# Altium footprint library ISG-PLL-PCBA.PcbLib: 1 footprints
Each footprint in its own frame and in the unit in brackets; x right, y up, seen from the top. Pads: shape width x height; smd on the part's side, far side on the other; paste and mask are expansions set on the pad; w line width, h text height; cw(c..) or ccw(c..) is an arc to the next point about the centre after c.
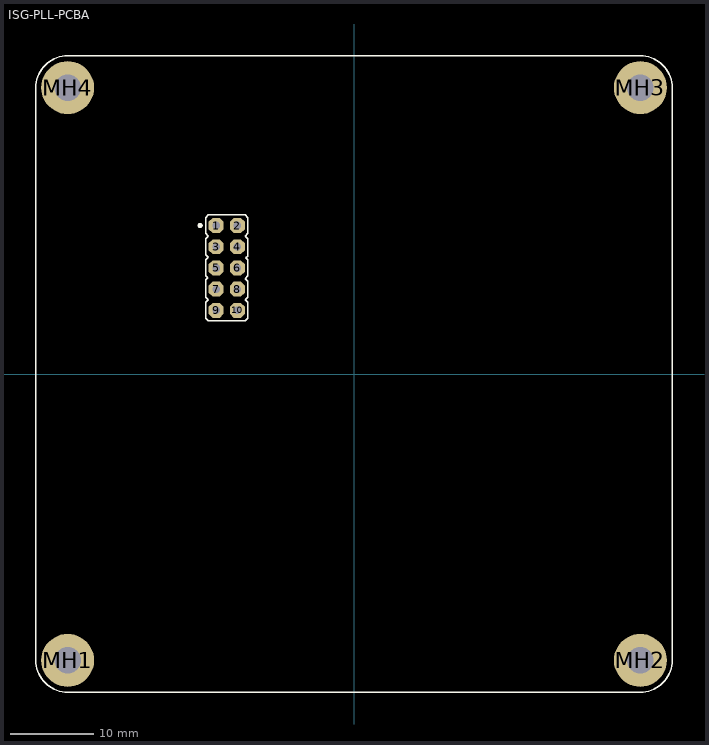
[diagram p0: the footprint, top view; thin cyan lines are the x and y axes]

## ISG-PLL-PCBA [mil]
pads (14):
  oct 70x70 hole 36: 1(-650,700) 2(-550,700) 3(-650,600) 4(-550,600) 5(-650,500) 6(-550,500) 7(-650,400) 8(-550,400) 9(-650,300) 10(-550,300)
  round 250 hole 125.98: MH1(-1350,-1350) MH2(1350,-1350) MH3(1350,1350) MH4(-1350,1350)
Top Overlay:
  circle w12: c-725,700 r6
  lines w6: -1500,-1350 ccw(c-1350,-1350) -1350,-1500 1350,-1500 ccw(c1350,-1350) 1500,-1350 1500,1350 ccw(c1350,1350) 1350,1500 -1350,1500 ccw(c-1350,1350) -1500,1350 -1500,-1350 ; -700,262.5 -687.5,250 -512.5,250 -500,262.5 -500,337.5 -512.5,350 -500,362.5 -500,437.5 -512.5,450 -500,462.5 -500,537.5 -509.38,546.88 -500,556.25 -500,637.5 -512.5,650 -500,662.5 -500,737.5 -512.5,750 -687.5,750 -700,737.5 -700,662.5 -687.5,650 -700,637.5 -700,562.5 -687.5,550 -700,537.5 -700,462.5 -690.62,453.12 -700,443.75 -700,362.5 -687.5,350 -700,337.5 -700,262.5